# Altium footprint library 10118193_USB.PcbLib: 1 footprints
Each footprint in its own frame and in the unit in brackets; x right, y up, seen from the top. Pads: shape width x height; smd on the part's side, far side on the other; paste and mask are expansions set on the pad; w line width, h text height; cw(c..) or ccw(c..) is an arc to the next point about the centre after c.
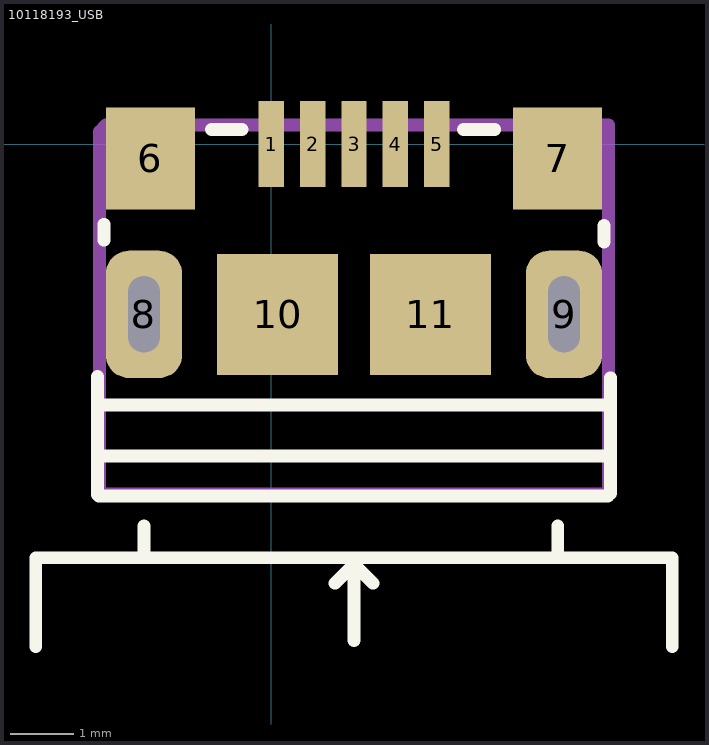
[diagram p0: the footprint, top view; thin cyan lines are the x and y axes]

## 10118193_USB [mm]
pads (11):
  rect 0.4x1.35 smd mask+0.05: 1(0,0) 2(0.65,0) 3(1.3,0) 4(1.95,0) 5(2.6,0)
  rect 1.4x1.6 smd: 6(-1.9,-0.225) 7(4.5,-0.225)
  rrect60% 1.2x2 hole 0.5 slot 1.2 at 90 deg: 8(-2,-2.675) 9(4.6,-2.675)
  rect 1.9x1.9 smd: 10(0.1,-2.675) 11(2.5,-2.675)
Top Overlay:
  lines w0.2: -3.7,-7.9 -3.7,-6.5 6.3,-6.5 6.3,-7.9 ; -2.73,-3.65 -2.73,-5.51 -2.71,-5.53 5.29,-5.53 5.33,-5.49 5.33,-3.67 ; -2.7,-4.9 -2.5,-4.9 5,-4.9 5.3,-4.9 ; -2.7,-4.1 5.3,-4.1 ; -2.63,-1.51 -2.63,-1.26 ; -2,-6.5 -2,-6 ; -0.94,0.23 -0.46,0.23 ; 1,-6.9 1.3,-6.6 ; 1.3,-7.8 1.3,-7.4 1.3,-6.5 1.3,-6.6 ; 1.3,-6.55 1.3,-6.6 ; 1.6,-6.9 1.3,-6.6 ; 3.02,0.23 3.51,0.23 ; 4.5,-6.5 4.5,-6 ; 5.23,-1.54 5.23,-1.28
Mechanical 2:
  lines w0.2: -2.7,-5.5 5.3,-5.5 5.3,0.3 -2.6,0.3 -2.7,0.2 -2.7,-5.5
  text ".Designator" at 0.954,-1.838 h1.52
3D body "10118193-0001lfc.stp": height 2.87, standoff -0.73, extent -2.628,-5.43 5.229,0.23